# EAGLE library part IMCV8 (library con-phoenix-381_l)
Invertierter Mini-Combicon 3.81mm vertikal 8-polig IMCV 1,5/8-G-3,81 (ohne Gegenstecker)
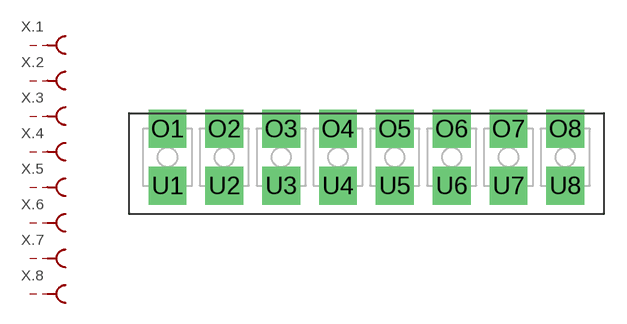
[diagram p31: symbol with the pads of IMCV8; footprint IMCV8]

Designator prefix X; gates .4=MCBU .3=MCBU .2=MCBU .1=MCBU .5=MCBU .6=MCBU .7=MCBU .8=MCBU

## IMCV8  [IMCV8]
O1  .1:S  pas
O2  .2:S  pas
O3  .3:S  pas
O4  .4:S  pas
O5  .5:S  pas
O6  .6:S  pas
O7  .7:S  pas
O8  .8:S  pas
U1  .1:SK  pas
U2  .2:SK  pas
U3  .3:SK  pas
U4  .4:SK  pas
U5  .5:SK  pas
U6  .6:SK  pas
U7  .7:SK  pas
U8  .8:SK  pas

## Footprint IMCV8 (pad centres in mm)
Mini-Combicon 3.81mm vertical 8-polig invertiert IMCV 1,5/8-G-3,81 Artikel-Nr. 1875483
drill 1.27 pad 2.54 square: O1 -13.335,1.905; O2 -9.525,1.905; O3 -5.715,1.905; O4 -1.905,1.905; O5 1.905,1.905; O6 5.715,1.905; O7 9.525,1.905; O8 13.335,1.905; U1 -13.335,-1.905; U2 -9.525,-1.905; U3 -5.715,-1.905; U4 -1.905,-1.905; U5 1.905,-1.905; U6 5.715,-1.905; U7 9.525,-1.905; U8 13.335,-1.905